# EAGLE library part SBH11-NBPC-D12 (library con-sullins)
HEADER - Vertical, Shrouded
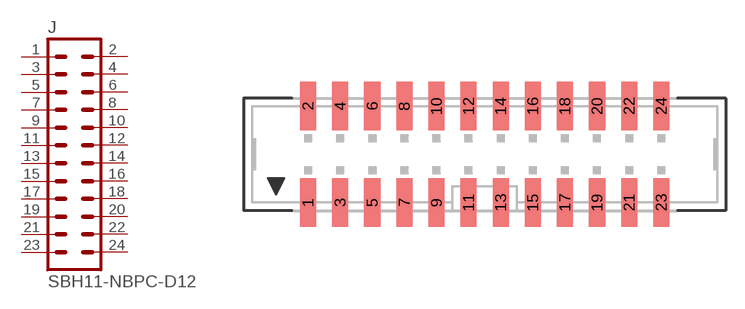
[diagram p25: symbol with the pads of SBH11-NBPC-D12; footprint SBH11-NBPC-D12]

Designator prefix J

## SBH11-NBPC-D12  [SBH11-NBPC-D12]
1  1  pas
2  2  pas
3  3  pas
4  4  pas
5  5  pas
6  6  pas
7  7  pas
8  8  pas
9  9  pas
10  10  pas
11  11  pas
12  12  pas
13  13  pas
14  14  pas
15  15  pas
16  16  pas
17  17  pas
18  18  pas
19  19  pas
20  20  pas
21  21  pas
22  22  pas
23  23  pas
24  24  pas

## Footprint SBH11-NBPC-D12 (pad centres in mm)
SMD HEADER - 0.1", Shrouded, Vertical
smd 1.27 x 3.81: 1 -13.97,-3.81; 2 -13.97,3.81; 3 -11.43,-3.81; 4 -11.43,3.81; 5 -8.89,-3.81; 6 -8.89,3.81; 7 -6.35,-3.81; 8 -6.35,3.81; 9 -3.81,-3.81; 10 -3.81,3.81; 11 -1.27,-3.81; 12 -1.27,3.81; 13 1.27,-3.81; 14 1.27,3.81; 15 3.81,-3.81; 16 3.81,3.81; 17 6.35,-3.81; 18 6.35,3.81; 19 8.89,-3.81; 20 8.89,3.81; 21 11.43,-3.81; 22 11.43,3.81; 23 13.97,-3.81; 24 13.97,3.81